# Altium footprint library Linear Technology.PcbLib: 25 footprints (part 2 of 2)
Each footprint in its own frame and in the unit in brackets; x right, y up, seen from the top. Pads: shape width x height; smd on the part's side, far side on the other; paste and mask are expansions set on the pad; w line width, h text height; cw(c..) or ccw(c..) is an arc to the next point about the centre after c.
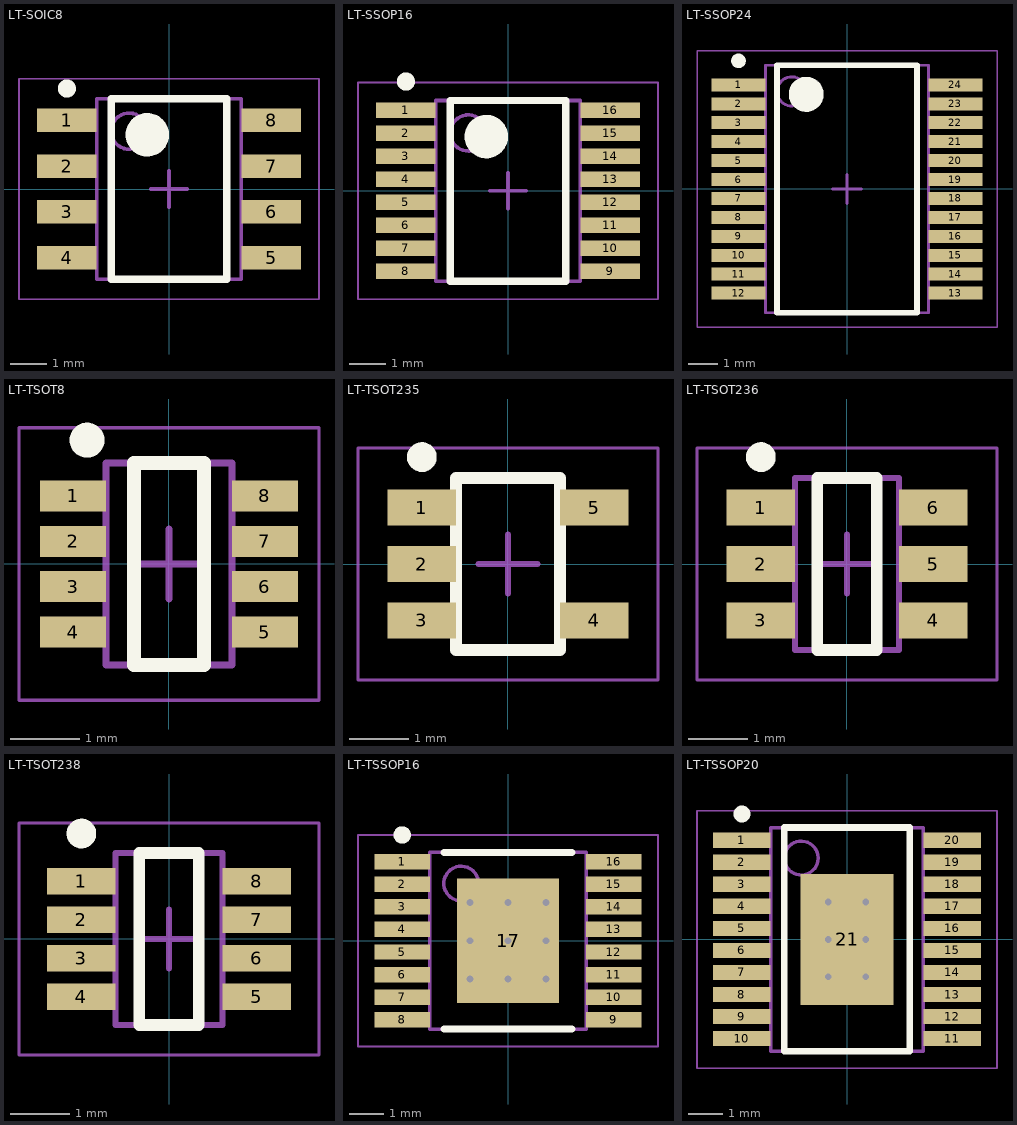
[diagram p1: the footprints below, top view; thin cyan lines are the x and y axes]

## LT-SOIC8 [mm] "SOIC, 8-Leads, Body 4.90x3.90mm, Pitch 1.27mm, IPC Low Density"
height 1.76
pads (8):
  rect 1.65x0.65 smd: 1(-2.825,1.905) 2(-2.825,0.635) 3(-2.825,-0.635) 4(-2.825,-1.905) 5(2.825,-1.905) 6(2.825,-0.635) 7(2.825,0.635) 8(2.825,1.905)
Top Overlay:
  circle w0.25: c-2.825,2.78 r0.125
  circle w0.6: c-0.6,1.5 r0.3
  lines w0.2: -1.6,-2.5 -1.6,2.5 1.6,2.5 1.6,-2.5 -1.6,-2.5
Mechanical 2:
  circle w0.1: c-1.1,1.6 r0.5
  lines w0.1: -2,-2.5 2,-2.5 2,2.5 -2,2.5 -2,-2.5
Mechanical 4:
  lines w0.05: -4.15,-3.05 4.15,-3.05 4.15,3.05 -4.15,3.05 -4.15,-3.05
  lines w0.1: -0.5,0 0.5,0 ; 0,-0.5 0,0.5
3D body "LT-SOIC8.step": height 1.75, standoff 0, extent -2.997,-2.5 2.997,2.5

## LT-SSOP16 [mm] "SOP, 16-Leads, Body 4.89x3.90mm, Pitch 0.64mm, IPC Low Density"
height 1.75
pads (16):
  rect 1.65x0.43 smd: 1(-2.825,2.222) 2(-2.825,1.587) 3(-2.825,0.953) 4(-2.825,0.318) 5(-2.825,-0.318) 6(-2.825,-0.953) 7(-2.825,-1.587) 8(-2.825,-2.222) 9(2.825,-2.222) 10(2.825,-1.587) 11(2.825,-0.953) 12(2.825,-0.318) 13(2.825,0.318) 14(2.825,0.953) 15(2.825,1.587) 16(2.825,2.222)
Top Overlay:
  circle w0.25: c-2.825,3.023 r0.125
  circle w0.6: c-0.6,1.5 r0.3
  lines w0.2: -1.6,-2.5 -1.6,2.5 1.6,2.5 1.6,-2.5 -1.6,-2.5
Mechanical 2:
  circle w0.1: c-1.1,1.6 r0.5
  lines w0.1: -2,-2.5 2,-2.5 2,2.5 -2,2.5 -2,-2.5
Mechanical 4:
  lines w0.05: -4.15,-3 4.15,-3 4.15,3 -4.15,3 -4.15,-3
  lines w0.1: -0.5,0 0.5,0 ; 0,-0.5 0,0.5
3D body: height 1.75, standoff 0.1, extent -2,-2.5 2,2.5

## LT-SSOP24 [mm] "SOP, 24-Leads, Body 8.20x5.30mm, Pitch 0.65mm, IPC Low Density"
height 2
pads (24):
  rect 1.85x0.446 smd: 1(-3.725,3.575) 2(-3.725,2.925) 3(-3.725,2.275) 4(-3.725,1.625) 5(-3.725,0.975) 6(-3.725,0.325) 7(-3.725,-0.325) 8(-3.725,-0.975) 9(-3.725,-1.625) 10(-3.725,-2.275) 11(-3.725,-2.925) 12(-3.725,-3.575) 13(3.725,-3.575) 14(3.725,-2.925) 15(3.725,-2.275) 16(3.725,-1.625) 17(3.725,-0.975) 18(3.725,-0.325) 19(3.725,0.325) 20(3.725,0.975) 21(3.725,1.625) 22(3.725,2.275) 23(3.725,2.925) 24(3.725,3.575)
Top Overlay:
  circle w0.6: c-1.4,3.25 r0.3
  circle w0.25: c-3.725,4.4 r0.125
  lines w0.2: -2.4,-4.25 2.4,-4.25 2.4,4.25 -2.4,4.25 -2.4,-4.25
Mechanical 2:
  circle w0.1: c-1.9,3.35 r0.5
  lines w0.1: -2.8,-4.25 -2.8,4.25 2.8,4.25 2.8,-4.25 -2.8,-4.25
Mechanical 4:
  lines w0.05: -5.15,-4.75 -5.15,4.75 5.15,4.75 5.15,-4.75 -5.15,-4.75
  lines w0.1: -0.5,0 0.5,0 ; 0,-0.5 0,0.5
3D body: height 2, standoff 0.05, extent -2.8,-4.25 2.8,4.25

## LT-TSOT8 [mm] "TSOP, 8-Leads, Body 2.90x1.63mm, Pitch 0.65mm, IPC Low Density"
height 1
pads (8):
  rect 0.95x0.446 smd: 1(-1.375,0.975) 2(-1.375,0.325) 3(-1.375,-0.325) 4(-1.375,-0.975) 5(1.375,-0.975) 6(1.375,-0.325) 7(1.375,0.325) 8(1.375,0.975)
Top Overlay:
  circle w0.25: c-1.175,1.775 r0.125
  lines w0.2: -0.5,-1.45 0.5,-1.45 0.5,1.45 -0.5,1.45 -0.5,-1.45
Mechanical 2:
  lines w0.1: -0.9,-1.45 0.9,-1.45 0.9,1.45 -0.9,1.45 -0.9,-1.45
Mechanical 4:
  lines w0.05: -2.15,-1.95 2.15,-1.95 2.15,1.95 -2.15,1.95 -2.15,-1.95
  lines w0.1: -0.5,0 0.5,0 ; 0,-0.5 0,0.5
3D body: height 1, standoff 0.01, extent -0.9,-1.45 0.9,1.45

## LT-TSOT235 [mm] "SOT23, 5-Leads, Body 2.90x2.80mm, Pitch 0.95mm, IPC Low Density"
height 1
pads (5):
  rect 1.15x0.6 smd: 1(-1.45,0.95) 2(-1.45,0) 3(-1.45,-0.95) 4(1.45,-0.95) 5(1.45,0.95)
Top Overlay:
  circle w0.25: c-1.45,1.8 r0.125
  lines w0.2: -0.875,-1.45 -0.875,1.45 0.875,1.45 0.875,-1.45 -0.875,-1.45
Mechanical 2:
  lines w0.1: -0.875,-1.45 0.875,-1.45 0.875,1.45 -0.875,1.45 -0.875,-1.45
Mechanical 4:
  lines w0.05: -2.525,-1.95 2.525,-1.95 2.525,1.95 -2.525,1.95 -2.525,-1.95
  lines w0.1: -0.5,0 0.5,0 ; 0,-0.5 0,0.5
3D body: height 1, standoff 0.01, extent -0.875,-1.45 0.875,1.45

## LT-TSOT236 [mm] "SOT23, 6-Leads, Body 2.90x2.80mm, Pitch 0.95mm, IPC Low Density"
height 1
pads (6):
  rect 1.15x0.6 smd: 1(-1.45,0.95) 2(-1.45,0) 3(-1.45,-0.95) 4(1.45,-0.95) 5(1.45,0) 6(1.45,0.95)
Top Overlay:
  circle w0.25: c-1.45,1.8 r0.125
  lines w0.2: -0.5,-1.45 -0.5,1.45 0.5,1.45 0.5,-1.45 -0.5,-1.45
Mechanical 2:
  lines w0.1: -0.875,-1.45 0.875,-1.45 0.875,1.45 -0.875,1.45 -0.875,-1.45
Mechanical 4:
  lines w0.05: -2.525,-1.95 2.525,-1.95 2.525,1.95 -2.525,1.95 -2.525,-1.95
  lines w0.1: -0.5,0 0.5,0 ; 0,-0.5 0,0.5
3D body: height 1, standoff 0.01, extent -0.875,-1.45 0.875,1.45

## LT-TSOT238 [mm] "TSOP, 8-Leads, Body 2.90x1.63mm, Pitch 0.65mm, IPC Low Density"
height 1
pads (8):
  rect 1.15x0.446 smd: 1(-1.475,0.975) 2(-1.475,0.325) 3(-1.475,-0.325) 4(-1.475,-0.975) 5(1.475,-0.975) 6(1.475,-0.325) 7(1.475,0.325) 8(1.475,0.975)
Top Overlay:
  circle w0.25: c-1.475,1.775 r0.125
  lines w0.2: -0.5,-1.45 -0.5,1.45 0.5,1.45 0.5,-1.45 -0.5,-1.45
Mechanical 2:
  lines w0.1: -0.9,-1.45 0.9,-1.45 0.9,1.45 -0.9,1.45 -0.9,-1.45
Mechanical 4:
  lines w0.05: -2.525,-1.95 2.525,-1.95 2.525,1.95 -2.525,1.95 -2.525,-1.95
  lines w0.1: -0.5,0 0.5,0 ; 0,-0.5 0,0.5
3D body: height 1, standoff 0.01, extent -0.9,-1.45 0.9,1.45

## LT-TSSOP16 [mm] "TSOP, 16-Leads, Body 5.00x4.40mm, Pitch 0.65mm, Thermal Pad 3.58x2.94mm, IPC Low Density"
height 1.1
pads (17):
  rect 1.6x0.446 smd: 1(-3.05,2.275) 2(-3.05,1.625) 3(-3.05,0.975) 4(-3.05,0.325) 5(-3.05,-0.325) 6(-3.05,-0.975) 7(-3.05,-1.625) 8(-3.05,-2.275) 9(3.05,-2.275) 10(3.05,-1.625) 11(3.05,-0.975) 12(3.05,-0.325) 13(3.05,0.325) 14(3.05,0.975) 15(3.05,1.625) 16(3.05,2.275)
  rect 2.94x3.58 smd: 17(0,0)
via -1.1,1.1 diameter 0.5 hole 0.2
via 0,1.1 diameter 0.5 hole 0.2
via 1.1,1.1 diameter 0.5 hole 0.2
via -1.1,0 diameter 0.5 hole 0.2
via 0,0 diameter 0.5 hole 0.2
via 1.1,0 diameter 0.5 hole 0.2
via -1.1,-1.1 diameter 0.5 hole 0.2
via 0,-1.1 diameter 0.5 hole 0.2
via 1.1,-1.1 diameter 0.5 hole 0.2
Top Overlay:
  circle w0.25: c-3.05,3.05 r0.125
  lines w0.2: -1.85,-2.55 1.85,-2.55 ; -1.85,2.55 1.85,2.55
Mechanical 2:
  circle w0.1: c-1.35,1.65 r0.5
  lines w0.1: -2.25,-2.55 2.25,-2.55 2.25,2.55 -2.25,2.55 -2.25,-2.55
Mechanical 4:
  lines w0.05: -4.325,-3.05 4.325,-3.05 4.325,3.05 -4.325,3.05 -4.325,-3.05
  lines w0.1: -0.5,0 0.5,0 ; 0,-0.5 0,0.5
3D body: height 1.1, standoff 0.05, extent -2.25,-2.55 2.25,2.55

## LT-TSSOP20 [mm] "TSOP, 20-Leads, Body 6.50x4.40mm, Pitch 0.65mm, Thermal Pad 3.86x2.74mm, IPC Low Density"
height 1.2
pads (21):
  rect 1.7x0.45 smd: 1(-3.1,2.925) 2(-3.1,2.275) 3(-3.1,1.625) 4(-3.1,0.975) 5(-3.1,0.325) 6(-3.1,-0.325) 7(-3.1,-0.975) 8(-3.1,-1.625) 9(-3.1,-2.275) 10(-3.1,-2.925) 11(3.1,-2.925) 12(3.1,-2.275) 13(3.1,-1.625) 14(3.1,-0.975) 15(3.1,-0.325) 16(3.1,0.325) 17(3.1,0.975) 18(3.1,1.625) 19(3.1,2.275) 20(3.1,2.925)
  rect 2.74x3.86 smd: 21(0,0)
via -0.55,1.1 diameter 0.5 hole 0.2
via 0.55,1.1 diameter 0.5 hole 0.2
via -0.55,0 diameter 0.5 hole 0.2
via 0.55,0 diameter 0.5 hole 0.2
via -0.55,-1.1 diameter 0.5 hole 0.2
via 0.55,-1.1 diameter 0.5 hole 0.2
Top Overlay:
  circle w0.25: c-3.1,3.7 r0.125
  lines w0.2: -1.85,-3.3 -1.85,3.3 1.85,3.3 1.85,-3.3 -1.85,-3.3
Mechanical 2:
  circle w0.1: c-1.35,2.4 r0.5
  lines w0.1: -2.25,-3.3 -2.25,3.3 2.25,3.3 2.25,-3.3 -2.25,-3.3
Mechanical 4:
  lines w0.05: -4.425,-3.8 -4.425,3.8 4.425,3.8 4.425,-3.8 -4.425,-3.8
  lines w0.1: -0.5,0 0.5,0 ; 0,-0.5 0,0.5
3D body: height 1.2, standoff 0.05, extent -2.25,-3.3 2.25,3.3